# Altium footprint library QFN40P300X300X80_HS-21N.PcbLib: 1 footprints
Each footprint in its own frame and in the unit in brackets; x right, y up, seen from the top. Pads: shape width x height; smd on the part's side, far side on the other; paste and mask are expansions set on the pad; w line width, h text height; cw(c..) or ccw(c..) is an arc to the next point about the centre after c.
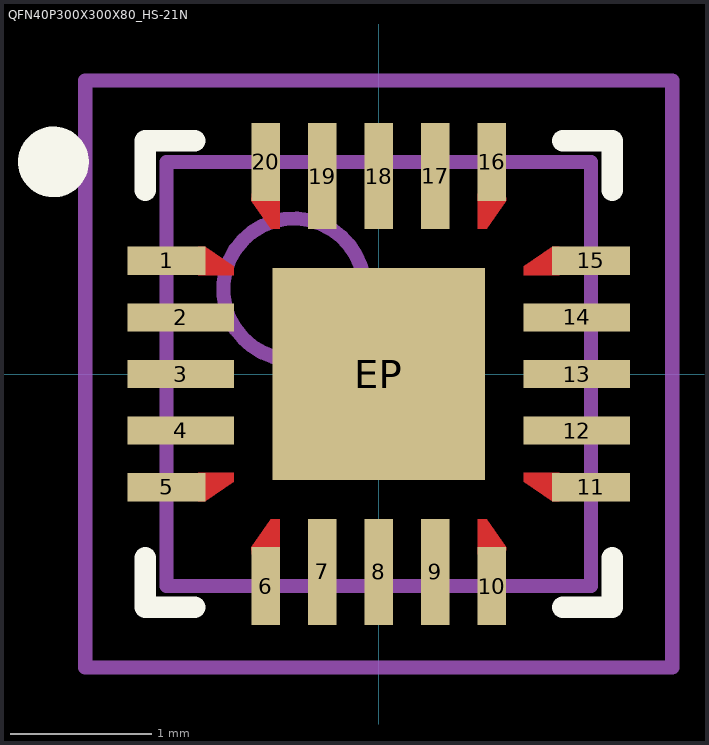
[diagram p0: the footprint, top view; thin cyan lines are the x and y axes]

## QFN40P300X300X80_HS-21N [mm] "QFN, 20-Leads, Body 3.00x3.00mm, Pitch 0.40mm, Thermal Pad 1.50x1.50mm, IPC Medium Density"
height 0.8
pads (21):
  rect 0.55x0.2 smd: 1(-1.5,0.8) 5(-1.5,-0.8) 11(1.5,-0.8) 15(1.5,0.8)
  rect 0.75x0.2 smd: 2(-1.4,0.4) 3(-1.4,0) 4(-1.4,-0.4) 12(1.4,-0.4) 13(1.4,0) 14(1.4,0.4)
  rect 0.2x0.55 smd: 6(-0.8,-1.5) 10(0.8,-1.5) 16(0.8,1.5) 20(-0.8,1.5)
  rect 0.2x0.75 smd: 7(-0.4,-1.4) 8(0,-1.4) 9(0.4,-1.4) 17(0.4,1.4) 18(0,1.4) 19(-0.4,1.4)
  rect 1.5x1.5 smd: EP(0,0)
Top Layer:
  region: -1.276,0.9 -1.225,0.9 -1.026,0.763 -1.026,0.7 -1.276,0.7
  region: -0.9,1.276 -0.9,1.225 -0.763,1.026 -0.7,1.026 -0.7,1.276
  region: 0.9,1.276 0.9,1.225 0.763,1.026 0.7,1.026 0.7,1.276
  region: 1.276,0.9 1.225,0.9 1.026,0.763 1.026,0.7 1.276,0.7
  region: 1.276,-0.9 1.225,-0.9 1.026,-0.763 1.026,-0.7 1.276,-0.7
  region: 0.9,-1.276 0.9,-1.225 0.763,-1.026 0.7,-1.026 0.7,-1.276
  region: -0.9,-1.276 -0.9,-1.225 -0.763,-1.026 -0.7,-1.026 -0.7,-1.276
  region: -1.276,-0.9 -1.225,-0.9 -1.026,-0.763 -1.026,-0.7 -1.276,-0.7
Top Overlay:
  circle w0.25: c-2.3,1.5 r0.125
  lines w0.152: -1.65,-1.3 -1.65,-1.65 -1.3,-1.65 ; -1.65,1.3 -1.65,1.65 -1.3,1.65 ; 1.3,-1.65 1.65,-1.65 1.65,-1.3 ; 1.3,1.65 1.65,1.65 1.65,1.3
Mechanical 13:
  circle w0.1: c-0.6,0.6 r0.5
  lines w0.1: -1.5,-1.5 -1.5,1.5 1.5,1.5 1.5,-1.5 -1.5,-1.5
Mechanical 15:
  lines w0.1: -0.5,0 0.5,0 ; 0,-0.5 0,0.5 ; -2.075,-2.075 -2.075,2.075 2.075,2.075 2.075,-2.075 -2.075,-2.075
3D body: height 0.8, standoff 0, extent -1.51,-1.51 1.51,1.51